# Altium footprint library Nano.PcbLib: 1 footprints
Each footprint in its own frame and in the unit in brackets; x right, y up, seen from the top. Pads: shape width x height; smd on the part's side, far side on the other; paste and mask are expansions set on the pad; w line width, h text height; cw(c..) or ccw(c..) is an arc to the next point about the centre after c.
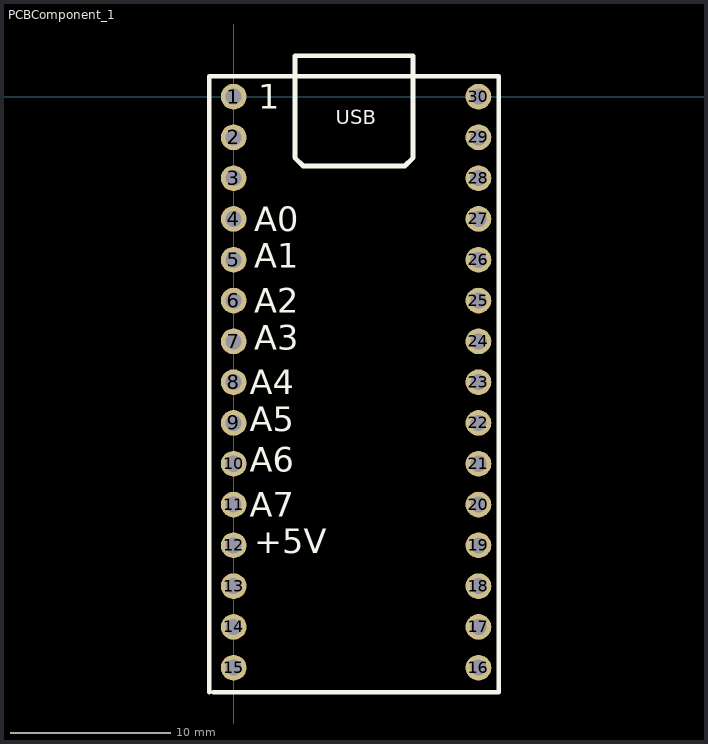
[diagram p0: the footprint, top view; thin cyan lines are the x and y axes]

## PCBComponent_1 [mm]
pads (30):
  round 1.6 hole 1: 1(0,0) 2(0,-2.54) 3(0,-5.08) 4(0,-7.62) 5(0,-10.16) 6(0,-12.7) 7(0,-15.24) 8(0,-17.78) 9(0,-20.32) 10(0,-22.86) 11(0,-25.4) 12(0,-27.94) 13(0,-30.48) 14(0,-33.02) 15(0,-35.56) 16(15.24,-35.56) 17(15.24,-33.02) 18(15.24,-30.48) 19(15.24,-27.94) 20(15.24,-25.4) 21(15.24,-22.86) 22(15.24,-20.32) 23(15.24,-17.78) 24(15.24,-15.24) 25(15.24,-12.7) 26(15.24,-10.16) 27(15.24,-7.62) 28(15.24,-5.08) 29(15.24,-2.54) 30(15.24,0)
Top Overlay:
  lines w0.3: -1.524,-37.084 -1.524,1.27 16.51,1.27 16.51,-37.084 -1.27,-37.084 ; 3.81,-3.81 3.81,2.54 11.176,2.54 11.176,-3.81 10.668,-4.318 4.318,-4.318 3.81,-3.81
  text "1" at 1.524,-0.762 h1.52
  text "USB" at 6.35,-2.032 h1.52
  text "A0" at 1.27,-8.382 h1.52
  text "A1" at 1.27,-10.668 h1.52
  text "A2" at 1.27,-13.462 h1.52
  text "A3" at 1.27,-15.748 h1.52
  text "A4" at 1.016,-18.542 h1.52
  text "A5" at 1.016,-20.828 h1.52
  text "A6" at 1.016,-23.368 h1.52
  text "A7" at 1.016,-26.162 h1.52
  text "+5V" at 1.27,-28.448 h1.52